# EAGLE library part PINHD-2X8/SMD (library headers)
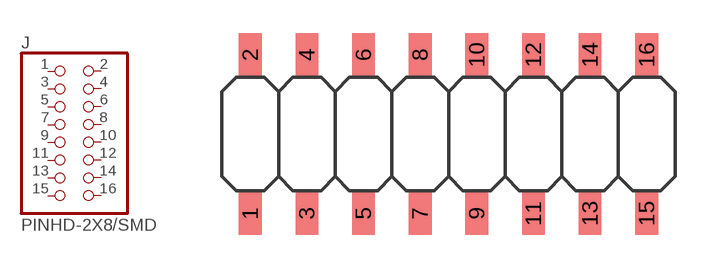
[diagram p15: symbol with the pads of 2X8/SMD; footprint 2X8/SMD]

Designator prefix J

## PINHD-2X8/SMD  [2X8/SMD]
1  1  pas
2  2  pas
3  3  pas
4  4  pas
5  5  pas
6  6  pas
7  7  pas
8  8  pas
9  9  pas
10  10  pas
11  11  pas
12  12  pas
13  13  pas
14  14  pas
15  15  pas
16  16  pas

## Footprint 2X8/SMD (pad centres in mm)
smd 1.016 x 1.905: 1 -8.89,-3.556; 2 -8.89,3.556; 3 -6.35,-3.556; 4 -6.35,3.556; 5 -3.81,-3.556; 6 -3.81,3.556; 7 -1.27,-3.556; 8 -1.27,3.556; 9 1.27,-3.556; 10 1.27,3.556; 11 3.81,-3.556; 12 3.81,3.556; 13 6.35,-3.556; 14 6.35,3.556; 15 8.89,-3.556; 16 8.89,3.556